# EAGLE library part CON_USB_UJ2-MIBH-4-SMT-TR-67 (library ZHAW_BA)
Micro B USB Buchse, 90° PCB Mount UJ2-MIBH-4-SMT-TR-67 DigiKey: Pt.Nr: 102-4970-1-ND https://www.digikey.ch/product-detail/de/cui-devices/UJ2-MIBH-4-SMT-TR-67/102-4970-1-ND/9564435
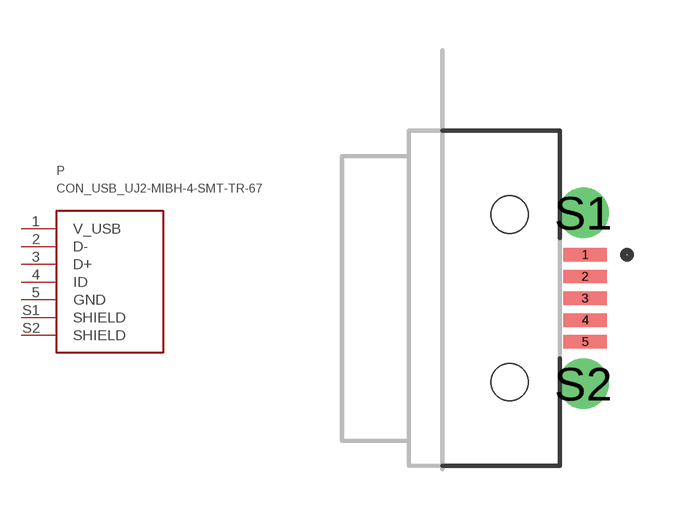
[diagram p6: symbol with the pads of CON_USB_UJ2-MIBH-4-SMT-TR-67; footprint CON_USB_UJ2-MIBH-4-SMT-TR-67]

Designator prefix P

## CON_USB_UJ2-MIBH-4-SMT-TR-67  [CON_USB_UJ2-MIBH-4-SMT-TR-67]
1  V_USB
2  D-
3  D+
4  ID
5  GND
S1  SHIELD
S2  SHIELD

## Footprint CON_USB_UJ2-MIBH-4-SMT-TR-67 (pad centres in mm)
smd 1.3 x 0.4: 1 4.25,1.3; 2 4.25,0.65; 3 4.25,0; 4 4.25,-0.65; 5 4.25,-1.3
drill 0.9 pad 1.5: S1 4.2,2.55; S2 4.2,-2.55
hole 1.1 at 2,2.5
hole 1.1 at 2,-2.5